# Altium schematic symbol library WE-TDC.SchLib: 26 symbols
Pins are listed as number, name and electrical type; pins without a type are passive.

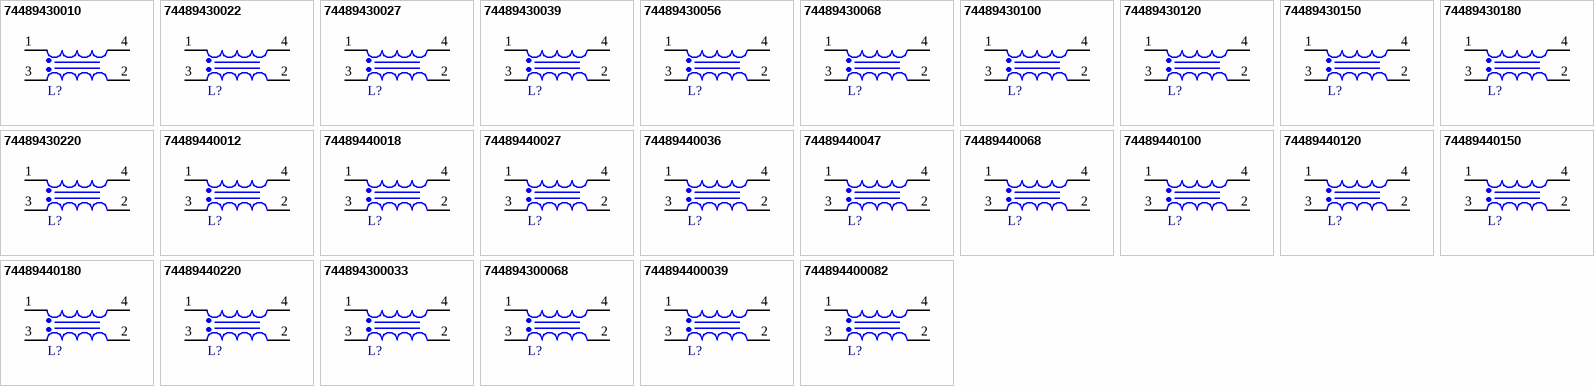
[diagram p0: symbols 74489430010 to 744894400082]

## 74489430010
designator L?, comment 1µH, 2.85A  (value not drawn)
WE-TDC SMT Shielded Coupled Inductor, size 8018, 1µH, 2.85A, 28mΩ; Manufacturer Part Number: 74489430010; Manufacturer: Wurth Elektronik; Case/Size Code: 8018; DC Resistance 1: 22.2mΩ; Rated Voltage: 80V; Saturation Current: 5.1A; Self Resonant Frequency: 136MHz; Category: Coupled Power Inductors; Match Code: WE-TDC; ComponentLink1Description: Website Link; ComponentLink1URL: https://www.we-online.com/redexpert/article/74489430010?ad; ComponentLink2Description: Datasheet Link; ComponentLink2URL: https://www.we-online.com/redexpert/spec/74489430010?ad; Mount: Surface Mount; Operating Temperature Max: 125°C; Operating Temperature Min: -40°C; Packaging: Tape and Reel; Length: 8mm; Width: 8mm; Height: 1.8mm; DC Resistance 2: 22.2mΩ; DC Resistance Max 1: 28mΩ; DC Resistance Max 2: 28mΩ; Inductance 1: 1µH; Inductance 2: 1µH; Rated Current 1: 2.85A; Rated Current 2: 2.85A
footprint WE-TDC_8018
simulation model 8018_74489430010_1u
pins: 1, 2, 3, 4

## 74489430022
designator L?, comment 2.2µH, 1.9A  (value not drawn)
WE-TDC SMT Shielded Coupled Inductor, size 8018, 2.2µH, 1.9A, 58mΩ; Manufacturer Part Number: 74489430022; Manufacturer: Wurth Elektronik; Case/Size Code: 8018; DC Resistance 1: 49.5mΩ; Rated Voltage: 80V; Saturation Current: 3.5A; Self Resonant Frequency: 85MHz; Category: Coupled Power Inductors; Match Code: WE-TDC; ComponentLink1Description: Website Link; ComponentLink1URL: https://www.we-online.com/redexpert/article/74489430022?ad; ComponentLink2Description: Datasheet Link; ComponentLink2URL: https://www.we-online.com/redexpert/spec/74489430022?ad; Mount: Surface Mount; Operating Temperature Max: 125°C; Operating Temperature Min: -40°C; Packaging: Tape and Reel; Length: 8mm; Width: 8mm; Height: 1.8mm; DC Resistance 2: 49.5mΩ; DC Resistance Max 1: 58mΩ; DC Resistance Max 2: 58mΩ; Inductance 1: 2.2µH; Inductance 2: 2.2µH; Rated Current 1: 1.9A; Rated Current 2: 1.9A
footprint WE-TDC_8018
simulation model 8018_74489430022_2.2u
pins: 1, 2, 3, 4

## 74489430027
designator L?, comment 2.7µH, 1.85A  (value not drawn)
WE-TDC SMT Shielded Coupled Inductor, size 8018, 2.7µH, 1.85A, 805mΩ; Manufacturer Part Number: 74489430027; Manufacturer: Wurth Elektronik; Case/Size Code: 8018; DC Resistance 1: 69.5mΩ; DC Resistance Max 2: 80.5mΩ; Rated Voltage: 80V; Saturation Current: 3A; Self Resonant Frequency: 65MHz; Category: Coupled Power Inductors; Match Code: WE-TDC; ComponentLink1Description: Website Link; ComponentLink1URL: https://www.we-online.com/redexpert/article/74489430027?ad; ComponentLink2Description: Datasheet Link; ComponentLink2URL: https://www.we-online.com/redexpert/spec/74489430027?ad; Mount: Surface Mount; Operating Temperature Max: 125°C; Operating Temperature Min: -40°C; Packaging: Tape and Reel; Length: 8mm; Width: 8mm; Height: 1.8mm; DC Resistance 2: 69.5mΩ; DC Resistance Max 1: 805mΩ; Inductance 1: 2.7µH; Inductance 2: 2.7µH; Rated Current 1: 1.85A; Rated Current 2: 1.85A
footprint WE-TDC_8018
simulation model 8018_74489430027_2.7u
pins: 1, 2, 3, 4

## 74489430039
designator L?, comment 3.9µH, 1.6A  (value not drawn)
WE-TDC SMT Shielded Coupled Inductor, size 8018, 3.9µH, 1.6A, 94mΩ; Manufacturer Part Number: 74489430039; Manufacturer: Wurth Elektronik; Case/Size Code: 8018; DC Resistance 1: 82mΩ; Rated Voltage: 80V; Saturation Current: 2.55A; Self Resonant Frequency: 60MHz; Category: Coupled Power Inductors; Match Code: WE-TDC; ComponentLink1Description: Website Link; ComponentLink1URL: https://www.we-online.com/redexpert/article/74489430039?ad; ComponentLink2Description: Datasheet Link; ComponentLink2URL: https://www.we-online.com/redexpert/spec/74489430039?ad; Mount: Surface Mount; Operating Temperature Max: 125°C; Operating Temperature Min: -40°C; Packaging: Tape and Reel; Length: 8mm; Width: 8mm; Height: 1.8mm; DC Resistance 2: 82mΩ; DC Resistance Max 1: 94mΩ; DC Resistance Max 2: 94mΩ; Inductance 1: 3.9µH; Inductance 2: 3.9µH; Rated Current 1: 1.6A; Rated Current 2: 1.6A
footprint WE-TDC_8018
simulation model 8018_74489430039_3.9u
pins: 1, 2, 3, 4

## 74489430056
designator L?, comment 5.6µH, 1.45A  (value not drawn)
WE-TDC SMT Shielded Coupled Inductor, size 8018, 5.6µH, 1.45A, 131mΩ; Manufacturer Part Number: 74489430056; Manufacturer: Wurth Elektronik; Case/Size Code: 8018; DC Resistance 1: 114mΩ; Rated Voltage: 80V; Saturation Current: 2.2A; Self Resonant Frequency: 50MHz; Category: Coupled Power Inductors; Match Code: WE-TDC; ComponentLink1Description: Website Link; ComponentLink1URL: https://www.we-online.com/redexpert/article/74489430056?ad; ComponentLink2Description: Datasheet Link; ComponentLink2URL: https://www.we-online.com/redexpert/spec/74489430056?ad; Mount: Surface Mount; Operating Temperature Max: 125°C; Operating Temperature Min: -40°C; Packaging: Tape and Reel; Length: 8mm; Width: 8mm; Height: 1.8mm; DC Resistance 2: 114mΩ; DC Resistance Max 1: 131mΩ; DC Resistance Max 2: 131mΩ; Inductance 1: 5.6µH; Inductance 2: 5.6µH; Rated Current 1: 1.45A; Rated Current 2: 1.45A
footprint WE-TDC_8018
simulation model 8018_74489430056_5.6u
pins: 1, 2, 3, 4

## 74489430068
designator L?, comment 6.8µH, 1.25A  (value not drawn)
WE-TDC SMT Shielded Coupled Inductor, size 8018, 6.8µH, 1.25A, 146mΩ; Manufacturer Part Number: 74489430068; Manufacturer: Wurth Elektronik; Case/Size Code: 8018; DC Resistance 1: 128mΩ; Rated Voltage: 80V; Saturation Current: 2A; Self Resonant Frequency: 46MHz; Category: Coupled Power Inductors; Match Code: WE-TDC; ComponentLink1Description: Website Link; ComponentLink1URL: https://www.we-online.com/redexpert/article/74489430068?ad; ComponentLink2Description: Datasheet Link; ComponentLink2URL: https://www.we-online.com/redexpert/spec/74489430068?ad; Mount: Surface Mount; Operating Temperature Max: 125°C; Operating Temperature Min: -40°C; Packaging: Tape and Reel; Length: 8mm; Width: 8mm; Height: 1.8mm; DC Resistance 2: 128mΩ; DC Resistance Max 1: 146mΩ; DC Resistance Max 2: 146mΩ; Inductance 1: 6.8µH; Inductance 2: 6.8µH; Rated Current 1: 1.25A; Rated Current 2: 1.25A
footprint WE-TDC_8018
pins: 1, 2, 3, 4

## 74489430100
designator L?, comment 10µH, 1A  (value not drawn)
WE-TDC SMT Shielded Coupled Inductor, size 8018, 10µH, 1A, 215mΩ; Manufacturer Part Number: 74489430100; Manufacturer: Wurth Elektronik; Case/Size Code: 8018; DC Resistance 1: 190mΩ; Rated Voltage: 80V; Saturation Current: 1.65A; Self Resonant Frequency: 35MHz; Category: Coupled Power Inductors; Match Code: WE-TDC; ComponentLink1Description: Website Link; ComponentLink1URL: https://www.we-online.com/redexpert/article/74489430100?ad; ComponentLink2Description: Datasheet Link; ComponentLink2URL: https://www.we-online.com/redexpert/spec/74489430100?ad; Mount: Surface Mount; Operating Temperature Max: 125°C; Operating Temperature Min: -40°C; Packaging: Tape and Reel; Length: 8mm; Width: 8mm; Height: 1.8mm; DC Resistance 2: 190mΩ; DC Resistance Max 1: 215mΩ; DC Resistance Max 2: 215mΩ; Inductance 1: 10µH; Inductance 2: 10µH; Rated Current 1: 1A; Rated Current 2: 1A
footprint WE-TDC_8018
simulation model 8018_74489430100_10u
pins: 1, 2, 3, 4

## 74489430120
designator L?, comment 12µH, 0.95A  (value not drawn)
WE-TDC SMT Shielded Coupled Inductor, size 8018, 12µH, 0.95A, 227mΩ; Manufacturer Part Number: 74489430120; Manufacturer: Wurth Elektronik; Case/Size Code: 8018; DC Resistance 1: 202mΩ; Rated Voltage: 80V; Saturation Current: 1.55A; Self Resonant Frequency: 33MHz; Category: Coupled Power Inductors; Match Code: WE-TDC; ComponentLink1Description: Website Link; ComponentLink1URL: https://www.we-online.com/redexpert/article/74489430120?ad; ComponentLink2Description: Datasheet Link; ComponentLink2URL: https://www.we-online.com/redexpert/spec/74489430120?ad; Mount: Surface Mount; Operating Temperature Max: 125°C; Operating Temperature Min: -40°C; Packaging: Tape and Reel; Length: 8mm; Width: 8mm; Height: 1.8mm; DC Resistance 2: 202mΩ; DC Resistance Max 1: 227mΩ; DC Resistance Max 2: 227mΩ; Inductance 1: 12µH; Inductance 2: 12µH; Rated Current 1: 0.95A; Rated Current 2: 0.95A
footprint WE-TDC_8018
simulation model 8018_74489430120_12u
pins: 1, 2, 3, 4

## 74489430150
designator L?, comment 15µH, 0.85A  (value not drawn)
WE-TDC SMT Shielded Coupled Inductor, size 8018, 15µH, 0.85A, 308mΩ; Manufacturer Part Number: 74489430150; Manufacturer: Wurth Elektronik; Case/Size Code: 8018; DC Resistance 1: 275mΩ; DC Resistance Max 2: 295mΩ; Rated Voltage: 80V; Saturation Current: 1.25A; Self Resonant Frequency: 29MHz; Category: Coupled Power Inductors; Match Code: WE-TDC; ComponentLink1Description: Website Link; ComponentLink1URL: https://www.we-online.com/redexpert/article/74489430150?ad; ComponentLink2Description: Datasheet Link; ComponentLink2URL: https://www.we-online.com/redexpert/spec/74489430150?ad; Mount: Surface Mount; Operating Temperature Max: 125°C; Operating Temperature Min: -40°C; Packaging: Tape and Reel; Length: 8mm; Width: 8mm; Height: 1.8mm; DC Resistance 2: 275mΩ; DC Resistance Max 1: 308mΩ; Inductance 1: 15µH; Inductance 2: 15µH; Rated Current 1: 0.85A; Rated Current 2: 0.85A
footprint WE-TDC_8018
simulation model 8018_74489430150_15u
pins: 1, 2, 3, 4

## 74489430180
designator L?, comment 18µH, 0.8A  (value not drawn)
WE-TDC SMT Shielded Coupled Inductor, size 8018, 18µH, 0.8A, 380mΩ; Manufacturer Part Number: 74489430180; Manufacturer: Wurth Elektronik; Case/Size Code: 8018; DC Resistance 1: 345mΩ; Rated Voltage: 80V; Saturation Current: 1.2A; Self Resonant Frequency: 27MHz; Category: Coupled Power Inductors; Match Code: WE-TDC; ComponentLink1Description: Website Link; ComponentLink1URL: https://www.we-online.com/redexpert/article/74489430180?ad; ComponentLink2Description: Datasheet Link; ComponentLink2URL: https://www.we-online.com/redexpert/spec/74489430180?ad; Mount: Surface Mount; Operating Temperature Max: 125°C; Operating Temperature Min: -40°C; Packaging: Tape and Reel; Length: 8mm; Width: 8mm; Height: 1.8mm; DC Resistance 2: 345mΩ; DC Resistance Max 1: 380mΩ; DC Resistance Max 2: 380mΩ; Inductance 1: 18µH; Inductance 2: 18µH; Rated Current 1: 0.8A; Rated Current 2: 0.8A
footprint WE-TDC_8018
simulation model 8018_74489430180_18u
pins: 1, 2, 3, 4

## 74489430220
designator L?, comment 22µH, 0.7A  (value not drawn)
WE-TDC SMT Shielded Coupled Inductor, size 8018, 22µH, 0.7A, 480mΩ; Manufacturer Part Number: 74489430220; Manufacturer: Wurth Elektronik; Case/Size Code: 8018; DC Resistance 1: 435mΩ; Rated Voltage: 80V; Saturation Current: 1.1A; Self Resonant Frequency: 17MHz; Category: Coupled Power Inductors; Match Code: WE-TDC; ComponentLink1Description: Website Link; ComponentLink1URL: https://www.we-online.com/redexpert/article/74489430220?ad; ComponentLink2Description: Datasheet Link; ComponentLink2URL: https://www.we-online.com/redexpert/spec/74489430220?ad; Mount: Surface Mount; Operating Temperature Max: 125°C; Operating Temperature Min: -40°C; Packaging: Tape and Reel; Length: 8mm; Width: 8mm; Height: 1.8mm; DC Resistance 2: 435mΩ; DC Resistance Max 1: 480mΩ; DC Resistance Max 2: 480mΩ; Inductance 1: 22µH; Inductance 2: 22µH; Rated Current 1: 0.7A; Rated Current 2: 0.7A
footprint WE-TDC_8018
pins: 1, 2, 3, 4

## 74489440012
designator L?, comment 1.2µH, 3.05A  (value not drawn)
WE-TDC SMT Shielded Coupled Inductor, size 8038, 1.2µH, 3.05A, 26mΩ; Manufacturer Part Number: 74489440012; Manufacturer: Wurth Elektronik; Case/Size Code: 8038; DC Resistance 1: 20.2mΩ; Rated Voltage: 80V; Saturation Current: 7.5A; Self Resonant Frequency: 90MHz; Category: Coupled Power Inductors; Match Code: WE-TDC; ComponentLink1Description: Website Link; ComponentLink1URL: https://www.we-online.com/redexpert/article/74489440012?ad; ComponentLink2Description: Datasheet Link; ComponentLink2URL: https://www.we-online.com/redexpert/spec/74489440012?ad; Mount: Surface Mount; Operating Temperature Max: 125°C; Operating Temperature Min: -40°C; Packaging: Tape and Reel; Length: 8mm; Width: 8mm; Height: 3.8mm; DC Resistance 2: 20.2mΩ; DC Resistance Max 1: 26mΩ; DC Resistance Max 2: 26mΩ; Inductance 1: 1.2µH; Inductance 2: 1.2µH; Rated Current 1: 3.05A; Rated Current 2: 3.05A
footprint WE-TDC_8038
simulation model 8038_74489440012_1.2u
pins: 1, 2, 3, 4

## 74489440018
designator L?, comment 1.8µH, 2.85A  (value not drawn)
WE-TDC SMT Shielded Coupled Inductor, size 8038, 1.8µH, 2.85A, 31mΩ; Manufacturer Part Number: 74489440018; Manufacturer: Wurth Elektronik; Case/Size Code: 8038; DC Resistance 1: 25.5mΩ; Rated Voltage: 80V; Saturation Current: 5.8A; Self Resonant Frequency: 60MHz; Category: Coupled Power Inductors; Match Code: WE-TDC; ComponentLink1Description: Website Link; ComponentLink1URL: https://www.we-online.com/redexpert/article/74489440018?ad; ComponentLink2Description: Datasheet Link; ComponentLink2URL: https://www.we-online.com/redexpert/spec/74489440018?ad; Mount: Surface Mount; Operating Temperature Max: 125°C; Operating Temperature Min: -40°C; Packaging: Tape and Reel; Length: 8mm; Width: 8mm; Height: 3.8mm; DC Resistance 2: 25.5mΩ; DC Resistance Max 1: 31mΩ; DC Resistance Max 2: 31mΩ; Inductance 1: 1.8µH; Inductance 2: 1.8µH; Rated Current 1: 2.85A; Rated Current 2: 2.85A
footprint WE-TDC_8038
simulation model 8038_74489440018_1.8u
pins: 1, 2, 3, 4

## 74489440027
designator L?, comment 2.7µH, 2.5A  (value not drawn)
WE-TDC SMT Shielded Coupled Inductor, size 8038, 2.7µH, 2.5A, 40mΩ; Manufacturer Part Number: 74489440027; Manufacturer: Wurth Elektronik; Case/Size Code: 8038; DC Resistance 1: 34.5mΩ; Rated Voltage: 80V; Saturation Current: 5.1A; Self Resonant Frequency: 55MHz; Category: Coupled Power Inductors; Match Code: WE-TDC; ComponentLink1Description: Website Link; ComponentLink1URL: https://www.we-online.com/redexpert/article/74489440027?ad; ComponentLink2Description: Datasheet Link; ComponentLink2URL: https://www.we-online.com/redexpert/spec/74489440027?ad; Mount: Surface Mount; Operating Temperature Max: 125°C; Operating Temperature Min: -40°C; Packaging: Tape and Reel; Length: 8mm; Width: 8mm; Height: 3.8mm; DC Resistance 2: 34.5mΩ; DC Resistance Max 1: 40mΩ; DC Resistance Max 2: 40mΩ; Inductance 1: 2.7µH; Inductance 2: 2.7µH; Rated Current 1: 2.5A; Rated Current 2: 2.5A
footprint WE-TDC_8038
simulation model 8038_74489440027_2.7u
pins: 1, 2, 3, 4

## 74489440036
designator L?, comment 3.6µH, 2.3A  (value not drawn)
WE-TDC SMT Shielded Coupled Inductor, size 8038, 3.6µH, 2.3A, 53mΩ; Manufacturer Part Number: 74489440036; Manufacturer: Wurth Elektronik; Case/Size Code: 8038; DC Resistance 1: 47mΩ; Rated Voltage: 80V; Saturation Current: 4.6A; Self Resonant Frequency: 45MHz; Category: Coupled Power Inductors; Match Code: WE-TDC; ComponentLink1Description: Website Link; ComponentLink1URL: https://www.we-online.com/redexpert/article/74489440036?ad; ComponentLink2Description: Datasheet Link; ComponentLink2URL: https://www.we-online.com/redexpert/spec/74489440036?ad; Mount: Surface Mount; Operating Temperature Max: 125°C; Operating Temperature Min: -40°C; Packaging: Tape and Reel; Length: 8mm; Width: 8mm; Height: 3.8mm; DC Resistance 2: 47mΩ; DC Resistance Max 1: 53mΩ; DC Resistance Max 2: 53mΩ; Inductance 1: 3.6µH; Inductance 2: 3.6µH; Rated Current 1: 2.3A; Rated Current 2: 2.3A
footprint WE-TDC_8038
simulation model 8038_74489440036_3.6u
pins: 1, 2, 3, 4

## 74489440047
designator L?, comment 4.7µH, 1.85A  (value not drawn)
WE-TDC SMT Shielded Coupled Inductor, size 8038, 4.7µH, 1.85A, 64mΩ; Manufacturer Part Number: 74489440047; Manufacturer: Wurth Elektronik; Case/Size Code: 8038; DC Resistance 1: 54.5mΩ; Rated Voltage: 80V; Saturation Current: 4.2A; Self Resonant Frequency: 30MHz; Category: Coupled Power Inductors; Match Code: WE-TDC; ComponentLink1Description: Website Link; ComponentLink1URL: https://www.we-online.com/redexpert/article/74489440047?ad; ComponentLink2Description: Datasheet Link; ComponentLink2URL: https://www.we-online.com/redexpert/spec/74489440047?ad; Mount: Surface Mount; Operating Temperature Max: 125°C; Operating Temperature Min: -40°C; Packaging: Tape and Reel; Length: 8mm; Width: 8mm; Height: 3.8mm; DC Resistance 2: 54.5mΩ; DC Resistance Max 1: 64mΩ; DC Resistance Max 2: 64mΩ; Inductance 1: 4.7µH; Inductance 2: 4.7µH; Rated Current 1: 1.85A; Rated Current 2: 1.85A
footprint WE-TDC_8038
simulation model 8038_74489440047_4.7u
pins: 1, 2, 3, 4

## 74489440068
designator L?, comment 6.8µH, 1.45A  (value not drawn)
WE-TDC SMT Shielded Coupled Inductor, size 8038, 6.8µH, 1.45A, 100mΩ; Manufacturer Part Number: 74489440068; Manufacturer: Wurth Elektronik; Case/Size Code: 8038; DC Resistance 1: 88mΩ; Rated Voltage: 80V; Saturation Current: 3.2A; Self Resonant Frequency: 25MHz; Category: Coupled Power Inductors; Match Code: WE-TDC; ComponentLink1Description: Website Link; ComponentLink1URL: https://www.we-online.com/redexpert/article/74489440068?ad; ComponentLink2Description: Datasheet Link; ComponentLink2URL: https://www.we-online.com/redexpert/spec/74489440068?ad; Mount: Surface Mount; Operating Temperature Max: 125°C; Operating Temperature Min: -40°C; Packaging: Tape and Reel; Length: 8mm; Width: 8mm; Height: 3.8mm; DC Resistance 2: 88mΩ; DC Resistance Max 1: 100mΩ; DC Resistance Max 2: 100mΩ; Inductance 1: 6.8µH; Inductance 2: 6.8µH; Rated Current 1: 1.45A; Rated Current 2: 1.45A
footprint WE-TDC_8038
pins: 1, 2, 3, 4

## 74489440100
designator L?, comment 10µH, 1.35A  (value not drawn)
WE-TDC SMT Shielded Coupled Inductor, size 8038, 10µH, 1.35A, 128mΩ; Manufacturer Part Number: 74489440100; Manufacturer: Wurth Elektronik; Case/Size Code: 8038; DC Resistance 1: 113mΩ; Rated Voltage: 80V; Saturation Current: 2.6A; Self Resonant Frequency: 23MHz; Category: Coupled Power Inductors; Match Code: WE-TDC; ComponentLink1Description: Website Link; ComponentLink1URL: https://www.we-online.com/redexpert/article/74489440100?ad; ComponentLink2Description: Datasheet Link; ComponentLink2URL: https://www.we-online.com/redexpert/spec/74489440100?ad; Mount: Surface Mount; Operating Temperature Max: 125°C; Operating Temperature Min: -40°C; Packaging: Tape and Reel; Length: 8mm; Width: 8mm; Height: 3.8mm; DC Resistance 2: 113mΩ; DC Resistance Max 1: 128mΩ; DC Resistance Max 2: 128mΩ; Inductance 1: 10µH; Inductance 2: 10µH; Rated Current 1: 1.35A; Rated Current 2: 1.35A
footprint WE-TDC_8038
pins: 1, 2, 3, 4

## 74489440120
designator L?, comment 12µH, 1.3A  (value not drawn)
WE-TDC SMT Shielded Coupled Inductor, size 8038, 12µH, 1.3A, 132mΩ; Manufacturer Part Number: 74489440120; Manufacturer: Wurth Elektronik; Case/Size Code: 8038; DC Resistance 1: 117mΩ; Rated Voltage: 80V; Saturation Current: 2.3A; Self Resonant Frequency: 20MHz; Category: Coupled Power Inductors; Match Code: WE-TDC; ComponentLink1Description: Website Link; ComponentLink1URL: https://www.we-online.com/redexpert/article/74489440120?ad; ComponentLink2Description: Datasheet Link; ComponentLink2URL: https://www.we-online.com/redexpert/spec/74489440120?ad; Mount: Surface Mount; Operating Temperature Max: 125°C; Operating Temperature Min: -40°C; Packaging: Tape and Reel; Length: 8mm; Width: 8mm; Height: 3.8mm; DC Resistance 2: 117mΩ; DC Resistance Max 1: 132mΩ; DC Resistance Max 2: 132mΩ; Inductance 1: 12µH; Inductance 2: 12µH; Rated Current 1: 1.3A; Rated Current 2: 1.3A
footprint WE-TDC_8038
simulation model 8038_74489440120_12u
pins: 1, 2, 3, 4

## 74489440150
designator L?, comment 15µH, 1.1A  (value not drawn)
WE-TDC SMT Shielded Coupled Inductor, size 8038, 15µH, 1.1A, 185mΩ; Manufacturer Part Number: 74489440150; Manufacturer: Wurth Elektronik; Case/Size Code: 8038; DC Resistance 1: 165mΩ; Rated Voltage: 80V; Saturation Current: 2.2A; Self Resonant Frequency: 17MHz; Category: Coupled Power Inductors; Match Code: WE-TDC; ComponentLink1Description: Website Link; ComponentLink1URL: https://www.we-online.com/redexpert/article/74489440150?ad; ComponentLink2Description: Datasheet Link; ComponentLink2URL: https://www.we-online.com/redexpert/spec/74489440150?ad; Mount: Surface Mount; Operating Temperature Max: 125°C; Operating Temperature Min: -40°C; Packaging: Tape and Reel; Length: 8mm; Width: 8mm; Height: 3.8mm; DC Resistance 2: 165mΩ; DC Resistance Max 1: 185mΩ; DC Resistance Max 2: 185mΩ; Inductance 1: 15µH; Inductance 2: 15µH; Rated Current 1: 1.1A; Rated Current 2: 1.1A
footprint WE-TDC_8038
simulation model 8038_74489440150_15u
pins: 1, 2, 3, 4

## 74489440180
designator L?, comment 18µH, 1.05A  (value not drawn)
WE-TDC SMT Shielded Coupled Inductor, size 8038, 18µH, 1.05A, 201mΩ; Manufacturer Part Number: 74489440180; Manufacturer: Wurth Elektronik; Case/Size Code: 8038; DC Resistance 1: 179mΩ; Rated Voltage: 80V; Saturation Current: 1.9A; Self Resonant Frequency: 15MHz; Category: Coupled Power Inductors; Match Code: WE-TDC; ComponentLink1Description: Website Link; ComponentLink1URL: https://www.we-online.com/redexpert/article/74489440180?ad; ComponentLink2Description: Datasheet Link; ComponentLink2URL: https://www.we-online.com/redexpert/spec/74489440180?ad; Mount: Surface Mount; Operating Temperature Max: 125°C; Operating Temperature Min: -40°C; Packaging: Tape and Reel; Length: 8mm; Width: 8mm; Height: 3.8mm; DC Resistance 2: 179mΩ; DC Resistance Max 1: 201mΩ; DC Resistance Max 2: 201mΩ; Inductance 1: 18µH; Inductance 2: 18µH; Rated Current 1: 1.05A; Rated Current 2: 1.05A
footprint WE-TDC_8038
simulation model 8038_74489440180_18u
pins: 1, 2, 3, 4

## 74489440220
designator L?, comment 22µH, 1A  (value not drawn)
WE-TDC SMT Shielded Coupled Inductor, size 8038, 22µH, 1A, 228mΩ; Manufacturer Part Number: 74489440220; Manufacturer: Wurth Elektronik; Case/Size Code: 8038; DC Resistance 1: 203mΩ; Rated Voltage: 80V; Saturation Current: 1.8A; Self Resonant Frequency: 14MHz; Category: Coupled Power Inductors; Match Code: WE-TDC; ComponentLink1Description: Website Link; ComponentLink1URL: https://www.we-online.com/redexpert/article/74489440220?ad; ComponentLink2Description: Datasheet Link; ComponentLink2URL: https://www.we-online.com/redexpert/spec/74489440220?ad; Mount: Surface Mount; Operating Temperature Max: 125°C; Operating Temperature Min: -40°C; Packaging: Tape and Reel; Length: 8mm; Width: 8mm; Height: 3.8mm; DC Resistance 2: 203mΩ; DC Resistance Max 1: 228mΩ; DC Resistance Max 2: 228mΩ; Inductance 1: 22µH; Inductance 2: 22µH; Rated Current 1: 1A; Rated Current 2: 1A
footprint WE-TDC_8038
simulation model 8038_74489440220_22u
pins: 1, 2, 3, 4

## 744894300033
designator L?, comment 0.33µH, 4A  (value not drawn)
WE-TDC SMT Shielded Coupled Inductor, size 8018, 0.33µH, 4A, 15mΩ; Manufacturer Part Number: 744894300033; Manufacturer: Wurth Elektronik; Case/Size Code: 8018; DC Resistance 1: 11.1mΩ; Rated Voltage: 80V; Saturation Current: 9A; Self Resonant Frequency: 280MHz; Category: Coupled Power Inductors; Match Code: WE-TDC; ComponentLink1Description: Website Link; ComponentLink1URL: https://www.we-online.com/redexpert/article/744894300033?ad; ComponentLink2Description: Datasheet Link; ComponentLink2URL: https://www.we-online.com/redexpert/spec/744894300033?ad; Mount: Surface Mount; Operating Temperature Max: 125°C; Operating Temperature Min: -40°C; Packaging: Tape and Reel; Length: 8mm; Width: 8mm; Height: 1.8mm; DC Resistance 2: 11.1mΩ; DC Resistance Max 1: 15mΩ; DC Resistance Max 2: 15mΩ; Inductance 1: 0.33µH; Inductance 2: 0.33µH; Rated Current 1: 4A; Rated Current 2: 4A
footprint WE-TDC_8018
simulation model 8018_744894300033_0.33u
pins: 1, 2, 3, 4

## 744894300068
designator L?, comment 0.68µH, 3.3A  (value not drawn)
WE-TDC SMT Shielded Coupled Inductor, size 8018, 0.68µH, 3.3A, 21mΩ; Manufacturer Part Number: 744894300068; Manufacturer: Wurth Elektronik; Case/Size Code: 8018; DC Resistance 1: 16.3mΩ; Rated Voltage: 80V; Saturation Current: 6.5A; Self Resonant Frequency: 190MHz; Category: Coupled Power Inductors; Match Code: WE-TDC; ComponentLink1Description: Website Link; ComponentLink1URL: https://www.we-online.com/redexpert/article/744894300068?ad; ComponentLink2Description: Datasheet Link; ComponentLink2URL: https://www.we-online.com/redexpert/spec/744894300068?ad; Mount: Surface Mount; Operating Temperature Max: 125°C; Operating Temperature Min: -40°C; Packaging: Tape and Reel; Length: 8mm; Width: 8mm; Height: 1.8mm; DC Resistance 2: 16.3mΩ; DC Resistance Max 1: 21mΩ; DC Resistance Max 2: 21mΩ; Inductance 1: 0.68µH; Inductance 2: 0.68µH; Rated Current 1: 3.3A; Rated Current 2: 3.3A
footprint WE-TDC_8018
simulation model 8018_744894300068_0.68u
pins: 1, 2, 3, 4

## 744894400039
designator L?, comment 0.39µH, 4.5A  (value not drawn)
WE-TDC SMT Shielded Coupled Inductor, size 8038, 0.39µH, 4.5A, 14.5mΩ; Manufacturer Part Number: 744894400039; Manufacturer: Wurth Elektronik; Case/Size Code: 8038; DC Resistance 1: 11.6mΩ; Rated Voltage: 80V; Saturation Current: 14A; Self Resonant Frequency: 210MHz; Category: Coupled Power Inductors; Match Code: WE-TDC; ComponentLink1Description: Website Link; ComponentLink1URL: https://www.we-online.com/redexpert/article/744894400039?ad; ComponentLink2Description: Datasheet Link; ComponentLink2URL: https://www.we-online.com/redexpert/spec/744894400039?ad; Mount: Surface Mount; Operating Temperature Max: 125°C; Operating Temperature Min: -40°C; Packaging: Tape and Reel; Length: 8mm; Width: 8mm; Height: 3.8mm; DC Resistance 2: 11.6mΩ; DC Resistance Max 1: 14.5mΩ; DC Resistance Max 2: 14.5mΩ; Inductance 1: 0.39µH; Inductance 2: 0.39µH; Rated Current 1: 4.5A; Rated Current 2: 4.5A
footprint WE-TDC_8038
simulation model 8038_744894400039_0.39u
pins: 1, 2, 3, 4

## 744894400082
designator L?, comment 0.82µH, 3.7A  (value not drawn)
WE-TDC SMT Shielded Coupled Inductor, size 8038, 0.82µH, 3.7A, 20mΩ; Manufacturer Part Number: 744894400082; Manufacturer: Wurth Elektronik; Case/Size Code: 8038; DC Resistance 1: 15.9mΩ; Rated Voltage: 80V; Saturation Current: 9.6A; Self Resonant Frequency: 140MHz; Category: Coupled Power Inductors; Match Code: WE-TDC; ComponentLink1Description: Website Link; ComponentLink1URL: https://www.we-online.com/redexpert/article/744894400082?ad; ComponentLink2Description: Datasheet Link; ComponentLink2URL: https://www.we-online.com/redexpert/spec/744894400082?ad; Mount: Surface Mount; Operating Temperature Max: 125°C; Operating Temperature Min: -40°C; Packaging: Tape and Reel; Length: 8mm; Width: 8mm; Height: 3.8mm; DC Resistance 2: 15.9mΩ; DC Resistance Max 1: 20mΩ; DC Resistance Max 2: 20mΩ; Inductance 1: 0.82µH; Inductance 2: 0.82µH; Rated Current 1: 3.7A; Rated Current 2: 3.7A
footprint WE-TDC_8038
simulation model 8038_744894400082_0.82u
pins: 1, 2, 3, 4